# Altium footprint library Switch_E-Switch_TL1015AF160QG_eec_0.PcbLib: 1 footprints
Each footprint in its own frame and in the unit in brackets; x right, y up, seen from the top. Pads: shape width x height; smd on the part's side, far side on the other; paste and mask are expansions set on the pad; w line width, h text height; cw(c..) or ccw(c..) is an arc to the next point about the centre after c.
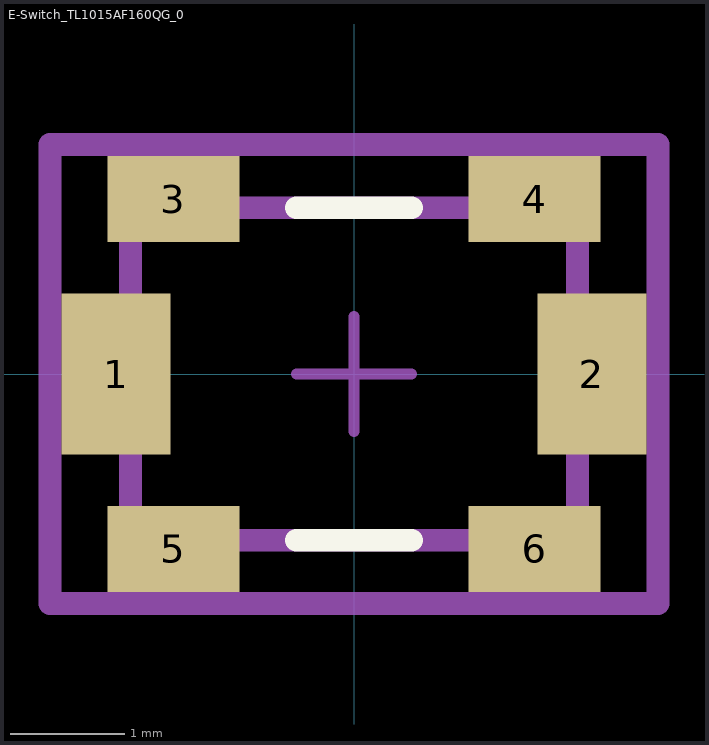
[diagram p0: the footprint, top view; thin cyan lines are the x and y axes]

## E-Switch_TL1015AF160QG_0 [mm]
pads (6):
  rect 0.95x1.4 smd paste+0 mask+0: 1(-2.075,0) 2(2.075,0)
  rect 1.15x0.75 smd paste+0 mask+0: 3(-1.575,1.525) 4(1.575,1.525) 5(-1.575,-1.525) 6(1.575,-1.525)
Top Overlay:
  lines w0.2: -0.5,-1.45 0.5,-1.45 ; -0.5,1.45 0.5,1.45
Mechanical 10:
  lines w0.2: -2.65,-2 2.65,-2 2.65,2 -2.65,2 -2.65,-2
  text ".Designator" at 0,0 h1
Mechanical 12:
  lines w0.2: -1.95,-1.45 1.95,-1.45 1.95,1.45 -1.95,1.45 -1.95,-1.45
Mechanical 15:
  lines w0.1: -0.5,0 0.5,0 ; 0,-0.5 0,0.5
  lines w0.2: -2.65,-2 2.65,-2 2.65,2 -2.65,2 -2.65,-2
3D body "Switch_E-Switch_TL1015AF160QG_eec.STEP": height 0.25, standoff 0, extent -2.65,-2 2.65,2